# Altium footprint library DR127.PcbLib: 1 footprints
Each footprint in its own frame and in the unit in brackets; x right, y up, seen from the top. Pads: shape width x height; smd on the part's side, far side on the other; paste and mask are expansions set on the pad; w line width, h text height; cw(c..) or ccw(c..) is an arc to the next point about the centre after c.
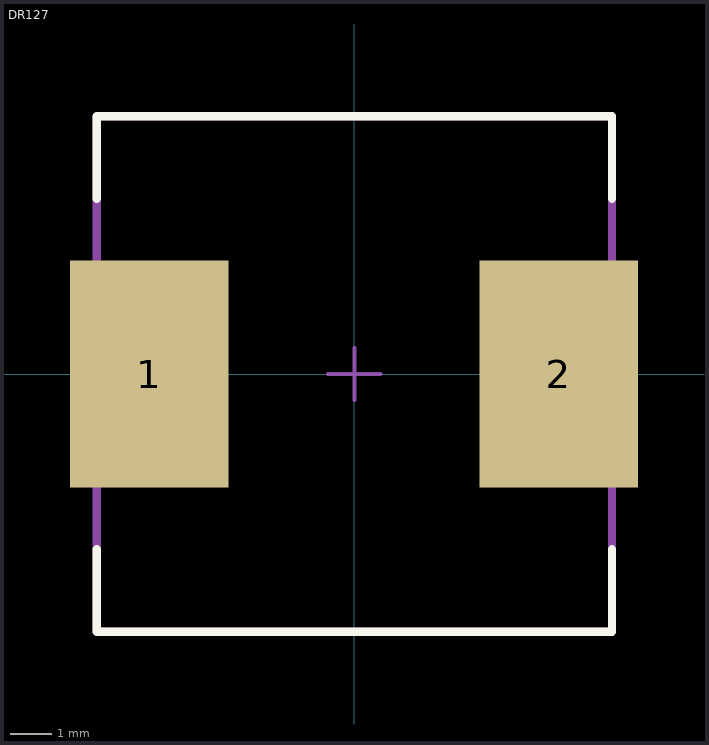
[diagram p0: the footprint, top view; thin cyan lines are the x and y axes]

## DR127 [mm] "DR127 series footprint for DR127-2R2-R"
height 8
pads (2):
  rect 3.85x5.5 smd mask+0: 1(-4.975,0) 2(4.957,0)
Top Overlay:
  lines w0.2: -6.25,-4.25 -6.25,-6.25 6.25,-6.25 6.25,-4.25 ; -6.25,4.25 -6.25,6.25 6.25,6.25 6.25,4.25
Mechanical 13:
  lines w0.2: -6.25,-6.25 6.25,-6.25 6.25,6.25 -6.25,6.25 -6.25,-6.25
Mechanical 15:
  lines w0.1: -0.635,0 0,0 ; 0,-0.635 0,0 ; 0,0.635 0,0 ; 0.635,0 0,0
3D body "DR127.stp": height 8, standoff 0, extent -6.25,-6.25 6.25,6.25